# EAGLE library part XCV800_HQ240 (library xilinx-xcv)
xcv800_hq240 edit this description Auto generated by make-symbol-device-package-bsdl.ulp Rev. 26 Source: xcv800_hq240.bsd
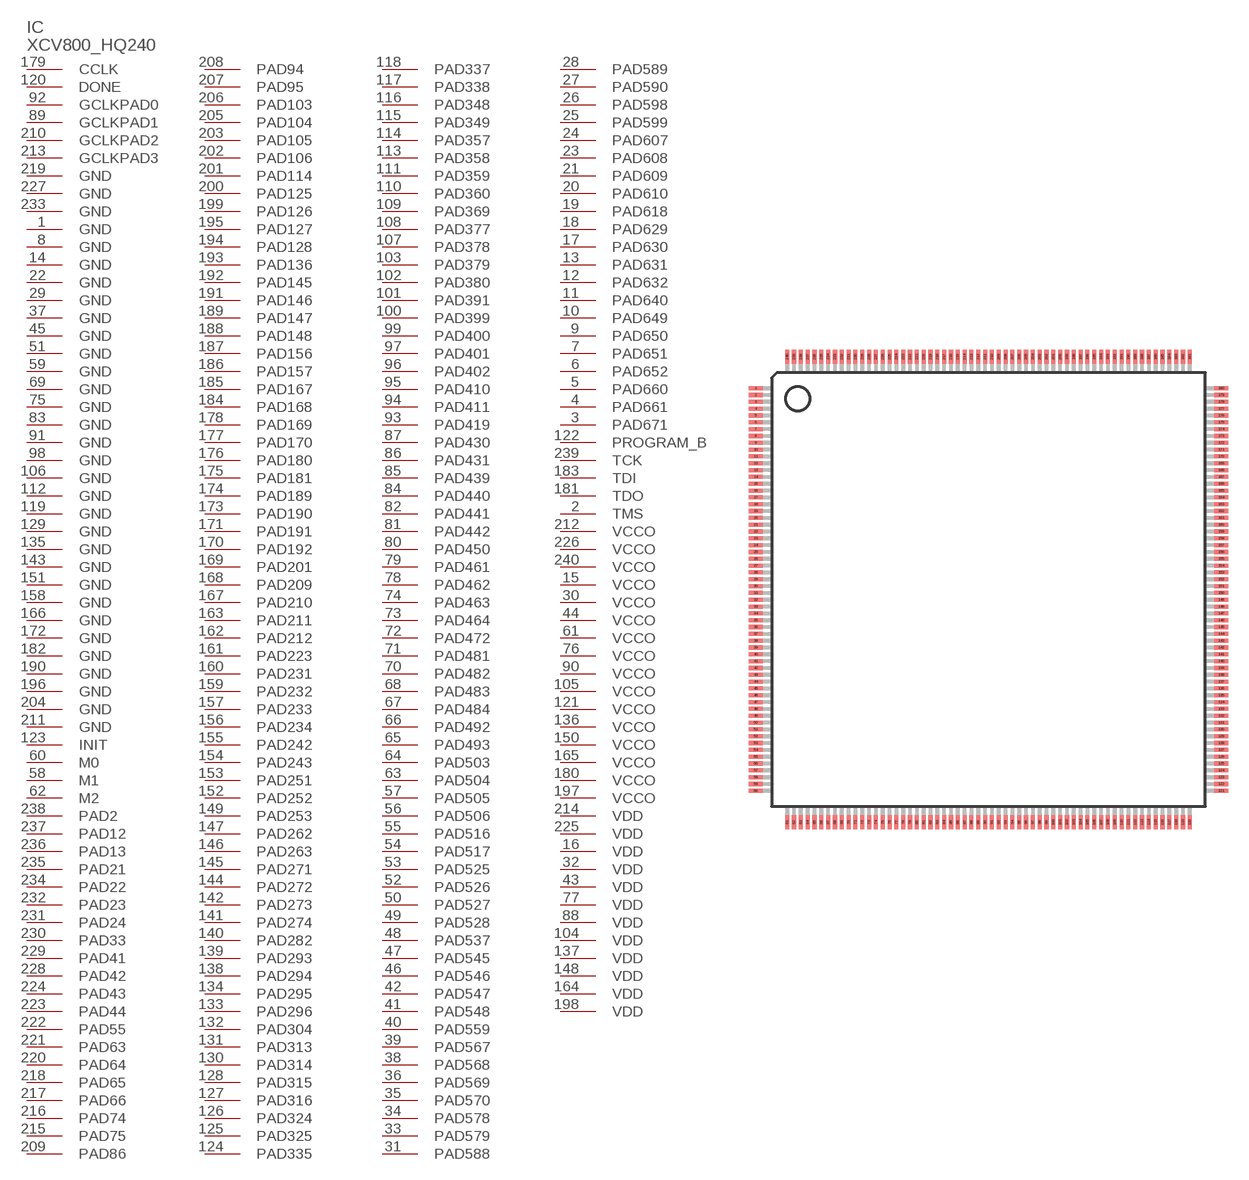
[diagram p131: symbol with the pads of HQ240; footprint HQ240]

Designator prefix IC

## XCV800_HQ240  [HQ240]
1  GND  pwr
2  TMS  in
3  PAD671
4  PAD661
5  PAD660
6  PAD652
7  PAD651
8  GND  pwr
9  PAD650
10  PAD649
11  PAD640
12  PAD632
13  PAD631
14  GND  pwr
15  VCCO  pwr
16  VDD  pwr
17  PAD630
18  PAD629
19  PAD618
20  PAD610
21  PAD609
22  GND  pwr
23  PAD608
24  PAD607
25  PAD599
26  PAD598
27  PAD590
28  PAD589
29  GND  pwr
30  VCCO  pwr
31  PAD588
32  VDD  pwr
33  PAD579
34  PAD578
35  PAD570
36  PAD569
37  GND  pwr
38  PAD568
39  PAD567
40  PAD559
41  PAD548
42  PAD547
43  VDD  pwr
44  VCCO  pwr
45  GND  pwr
46  PAD546
47  PAD545
48  PAD537
49  PAD528
50  PAD527
51  GND  pwr
52  PAD526
53  PAD525
54  PAD517
55  PAD516
56  PAD506
57  PAD505
58  M1  in
59  GND  pwr
60  M0  in
61  VCCO  pwr
62  M2  in
63  PAD504
64  PAD503
65  PAD493
66  PAD492
67  PAD484
68  PAD483
69  GND  pwr
70  PAD482
71  PAD481
72  PAD472
73  PAD464
74  PAD463
75  GND  pwr
76  VCCO  pwr
77  VDD  pwr
78  PAD462
79  PAD461
80  PAD450
81  PAD442
82  PAD441
83  GND  pwr
84  PAD440
85  PAD439
86  PAD431
87  PAD430
88  VDD  pwr
89  GCLKPAD1  in
90  VCCO  pwr
91  GND  pwr
92  GCLKPAD0  in
93  PAD419
94  PAD411
95  PAD410
96  PAD402
97  PAD401
98  GND  pwr
99  PAD400
100  PAD399
101  PAD391
102  PAD380
103  PAD379
104  VDD  pwr
105  VCCO  pwr
106  GND  pwr
107  PAD378
108  PAD377
109  PAD369
110  PAD360
111  PAD359
112  GND  pwr
113  PAD358
114  PAD357
115  PAD349
116  PAD348
117  PAD338
118  PAD337
119  GND  pwr
120  DONE
121  VCCO  pwr
122  PROGRAM_B  in
123  INIT
124  PAD335
125  PAD325
126  PAD324
127  PAD316
128  PAD315
129  GND  pwr
130  PAD314
131  PAD313
132  PAD304
133  PAD296
134  PAD295
135  GND  pwr
136  VCCO  pwr
137  VDD  pwr
138  PAD294
139  PAD293
140  PAD282
141  PAD274
142  PAD273
143  GND  pwr
144  PAD272
145  PAD271
146  PAD263
147  PAD262
148  VDD  pwr
149  PAD253
150  VCCO  pwr
151  GND  pwr
152  PAD252
153  PAD251
154  PAD243
155  PAD242
156  PAD234
157  PAD233
158  GND  pwr
159  PAD232
160  PAD231
161  PAD223
162  PAD212
163  PAD211
164  VDD  pwr
165  VCCO  pwr
166  GND  pwr
167  PAD210
168  PAD209
169  PAD201
170  PAD192
171  PAD191
172  GND  pwr
173  PAD190
174  PAD189
175  PAD181
176  PAD180
177  PAD170
178  PAD169
179  CCLK
180  VCCO  pwr
181  TDO  out
182  GND  pwr
183  TDI  in
184  PAD168
185  PAD167
186  PAD157
187  PAD156
188  PAD148
189  PAD147
190  GND  pwr
191  PAD146
192  PAD145
193  PAD136
194  PAD128
195  PAD127
196  GND  pwr
197  VCCO  pwr
198  VDD  pwr
199  PAD126
200  PAD125
201  PAD114
202  PAD106
203  PAD105
204  GND  pwr
205  PAD104
206  PAD103
207  PAD95
208  PAD94
209  PAD86
210  GCLKPAD2  in
211  GND  pwr
212  VCCO  pwr
213  GCLKPAD3  in
214  VDD  pwr
215  PAD75
216  PAD74
217  PAD66
218  PAD65
219  GND  pwr
220  PAD64
221  PAD63
222  PAD55
223  PAD44
224  PAD43
225  VDD  pwr
226  VCCO  pwr
227  GND  pwr
228  PAD42
229  PAD41
230  PAD33
231  PAD24
232  PAD23
233  GND  pwr
234  PAD22
235  PAD21
236  PAD13
237  PAD12
238  PAD2
239  TCK  in
240  VCCO  pwr

## Footprint HQ240 (pad centres in mm)
HQ240 Auto generated by make-symbol-device-package-bsdl.ulp Rev. 26
smd 1 x 0.3: 1 -17.05,14.75; 2 -17.05,14.25; 3 -17.05,13.75; 4 -17.05,13.25; 5 -17.05,12.75; 6 -17.05,12.25; 7 -17.05,11.75; 8 -17.05,11.25; 9 -17.05,10.75; 10 -17.05,10.25; 11 -17.05,9.75; 12 -17.05,9.25; 13 -17.05,8.75; 14 -17.05,8.25; 15 -17.05,7.75; 16 -17.05,7.25; 17 -17.05,6.75; 18 -17.05,6.25; 19 -17.05,5.75; 20 -17.05,5.25; 21 -17.05,4.75; 22 -17.05,4.25; 23 -17.05,3.75; 24 -17.05,3.25; 25 -17.05,2.75; 26 -17.05,2.25; 27 -17.05,1.75; 28 -17.05,1.25; 29 -17.05,0.75; 30 -17.05,0.25; 31 -17.05,-0.25; 32 -17.05,-0.75; 33 -17.05,-1.25; 34 -17.05,-1.75; 35 -17.05,-2.25; 36 -17.05,-2.75; 37 -17.05,-3.25; 38 -17.05,-3.75; 39 -17.05,-4.25; 40 -17.05,-4.75; 41 -17.05,-5.25; 42 -17.05,-5.75; 43 -17.05,-6.25; 44 -17.05,-6.75; 45 -17.05,-7.25; 46 -17.05,-7.75; 47 -17.05,-8.25; 48 -17.05,-8.75; 49 -17.05,-9.25; 50 -17.05,-9.75; 51 -17.05,-10.25; 52 -17.05,-10.75; 53 -17.05,-11.25; 54 -17.05,-11.75; 55 -17.05,-12.25; 56 -17.05,-12.75; 57 -17.05,-13.25; 58 -17.05,-13.75; 59 -17.05,-14.25; 60 -17.05,-14.75; 121 17.05,-14.75; 122 17.05,-14.25; 123 17.05,-13.75; 124 17.05,-13.25; 125 17.05,-12.75; 126 17.05,-12.25; 127 17.05,-11.75; 128 17.05,-11.25; 129 17.05,-10.75; 130 17.05,-10.25; 131 17.05,-9.75; 132 17.05,-9.25; 133 17.05,-8.75; 134 17.05,-8.25; 135 17.05,-7.75; 136 17.05,-7.25; 137 17.05,-6.75; 138 17.05,-6.25; 139 17.05,-5.75; 140 17.05,-5.25; 141 17.05,-4.75; 142 17.05,-4.25; 143 17.05,-3.75; 144 17.05,-3.25; 145 17.05,-2.75; 146 17.05,-2.25; 147 17.05,-1.75; 148 17.05,-1.25; 149 17.05,-0.75; 150 17.05,-0.25; 151 17.05,0.25; 152 17.05,0.75; 153 17.05,1.25; 154 17.05,1.75; 155 17.05,2.25; 156 17.05,2.75; 157 17.05,3.25; 158 17.05,3.75; 159 17.05,4.25; 160 17.05,4.75; 161 17.05,5.25; 162 17.05,5.75; 163 17.05,6.25; 164 17.05,6.75; 165 17.05,7.25; 166 17.05,7.75; 167 17.05,8.25; 168 17.05,8.75; 169 17.05,9.25; 170 17.05,9.75; 171 17.05,10.25; 172 17.05,10.75; 173 17.05,11.25; 174 17.05,11.75; 175 17.05,12.25; 176 17.05,12.75; 177 17.05,13.25; 178 17.05,13.75; 179 17.05,14.25; 180 17.05,14.75
smd 0.3 x 1: 61 -14.75,-17.05; 62 -14.25,-17.05; 63 -13.75,-17.05; 64 -13.25,-17.05; 65 -12.75,-17.05; 66 -12.25,-17.05; 67 -11.75,-17.05; 68 -11.25,-17.05; 69 -10.75,-17.05; 70 -10.25,-17.05; 71 -9.75,-17.05; 72 -9.25,-17.05; 73 -8.75,-17.05; 74 -8.25,-17.05; 75 -7.75,-17.05; 76 -7.25,-17.05; 77 -6.75,-17.05; 78 -6.25,-17.05; 79 -5.75,-17.05; 80 -5.25,-17.05; 81 -4.75,-17.05; 82 -4.25,-17.05; 83 -3.75,-17.05; 84 -3.25,-17.05; 85 -2.75,-17.05; 86 -2.25,-17.05; 87 -1.75,-17.05; 88 -1.25,-17.05; 89 -0.75,-17.05; 90 -0.25,-17.05; 91 0.25,-17.05; 92 0.75,-17.05; 93 1.25,-17.05; 94 1.75,-17.05; 95 2.25,-17.05; 96 2.75,-17.05; 97 3.25,-17.05; 98 3.75,-17.05; 99 4.25,-17.05; 100 4.75,-17.05; 101 5.25,-17.05; 102 5.75,-17.05; 103 6.25,-17.05; 104 6.75,-17.05; 105 7.25,-17.05; 106 7.75,-17.05; 107 8.25,-17.05; 108 8.75,-17.05; 109 9.25,-17.05; 110 9.75,-17.05; 111 10.25,-17.05; 112 10.75,-17.05; 113 11.25,-17.05; 114 11.75,-17.05; 115 12.25,-17.05; 116 12.75,-17.05; 117 13.25,-17.05; 118 13.75,-17.05; 119 14.25,-17.05; 120 14.75,-17.05; 181 14.75,17.05; 182 14.25,17.05; 183 13.75,17.05; 184 13.25,17.05; 185 12.75,17.05; 186 12.25,17.05; 187 11.75,17.05; 188 11.25,17.05; 189 10.75,17.05; 190 10.25,17.05; 191 9.75,17.05; 192 9.25,17.05; 193 8.75,17.05; 194 8.25,17.05; 195 7.75,17.05; 196 7.25,17.05; 197 6.75,17.05; 198 6.25,17.05; 199 5.75,17.05; 200 5.25,17.05; 201 4.75,17.05; 202 4.25,17.05; 203 3.75,17.05; 204 3.25,17.05; 205 2.75,17.05; 206 2.25,17.05; 207 1.75,17.05; 208 1.25,17.05; 209 0.75,17.05; 210 0.25,17.05; 211 -0.25,17.05; 212 -0.75,17.05; 213 -1.25,17.05; 214 -1.75,17.05; 215 -2.25,17.05; 216 -2.75,17.05; 217 -3.25,17.05; 218 -3.75,17.05; 219 -4.25,17.05; 220 -4.75,17.05; 221 -5.25,17.05; 222 -5.75,17.05; 223 -6.25,17.05; 224 -6.75,17.05; 225 -7.25,17.05; 226 -7.75,17.05; 227 -8.25,17.05; 228 -8.75,17.05; 229 -9.25,17.05; 230 -9.75,17.05; 231 -10.25,17.05; 232 -10.75,17.05; 233 -11.25,17.05; 234 -11.75,17.05; 235 -12.25,17.05; 236 -12.75,17.05; 237 -13.25,17.05; 238 -13.75,17.05; 239 -14.25,17.05; 240 -14.75,17.05